# Altium footprint library CONN_MEMCARDS.PcbLib: 1 footprints
Each footprint in its own frame and in the unit in brackets; x right, y up, seen from the top. Pads: shape width x height; smd on the part's side, far side on the other; paste and mask are expansions set on the pad; w line width, h text height; cw(c..) or ccw(c..) is an arc to the next point about the centre after c.
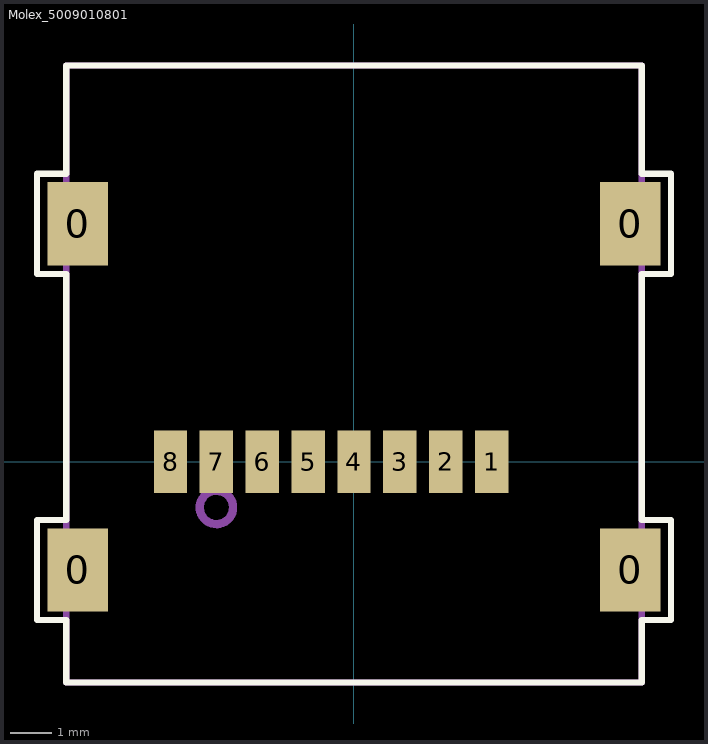
[diagram p0: the footprint, top view; thin cyan lines are the x and y axes]

## Molex_5009010801 [mm] "Molex microSD-8-cf, microSD card connector"
height 1.8
pads (12):
  rect 1.45x2 smd: 0(-6.63,-2.6) 0(-6.63,5.7) 0(6.63,-2.6) 0(6.63,5.7)
  rect 0.8x1.5 smd: 1(3.3,0) 2(2.2,0) 3(1.1,0) 4(0,0) 5(-1.1,0) 6(-2.2,0) 7(-3.3,0) 8(-4.4,0)
Top Overlay:
  lines w0.15: -7.6,-3.8 -6.9,-3.8 -6.9,-5.3 6.9,-5.3 6.9,-3.8 7.6,-3.8 7.6,-1.4 6.9,-1.4 6.9,4.5 7.6,4.5 7.6,6.9 6.9,6.9 6.9,9.5 -6.9,9.5 -6.9,6.9 -7.6,6.9 -7.6,4.5 -6.9,4.5 -6.9,-1.4 -7.6,-1.4 -7.6,-3.8
ASM Top:
  circle w0.2: c-3.3,-1.1 r0.4
  lines w0.15: -7.2,-3.3 -7.2,-1.9 -6.9,-1.9 -6.9,5 -7.2,5 -7.2,6.4 -6.9,6.4 -6.9,9.5 6.9,9.5 6.9,6.4 7.2,6.4 7.2,5 6.9,5 6.9,-1.9 7.2,-1.9 7.2,-3.3 6.9,-3.3 6.9,-5.3 -6.9,-5.3 -6.9,-3.3 -7.2,-3.3
  text ".Designator" at -2.2,1.9 h1.2
3D body "User Library-5009010801.step": height 1.93, standoff -0.02, extent -7.3,-5.15 7.3,9.35
3D body "microSD.step": height 1.95, standoff 0.97, extent -5.5,-5.6 5.5,9.4